# Altium footprint library pogo_pins.PcbLib: 5 footprints
Each footprint in its own frame and in the unit in brackets; x right, y up, seen from the top. Pads: shape width x height; smd on the part's side, far side on the other; paste and mask are expansions set on the pad; w line width, h text height; cw(c..) or ccw(c..) is an arc to the next point about the centre after c.
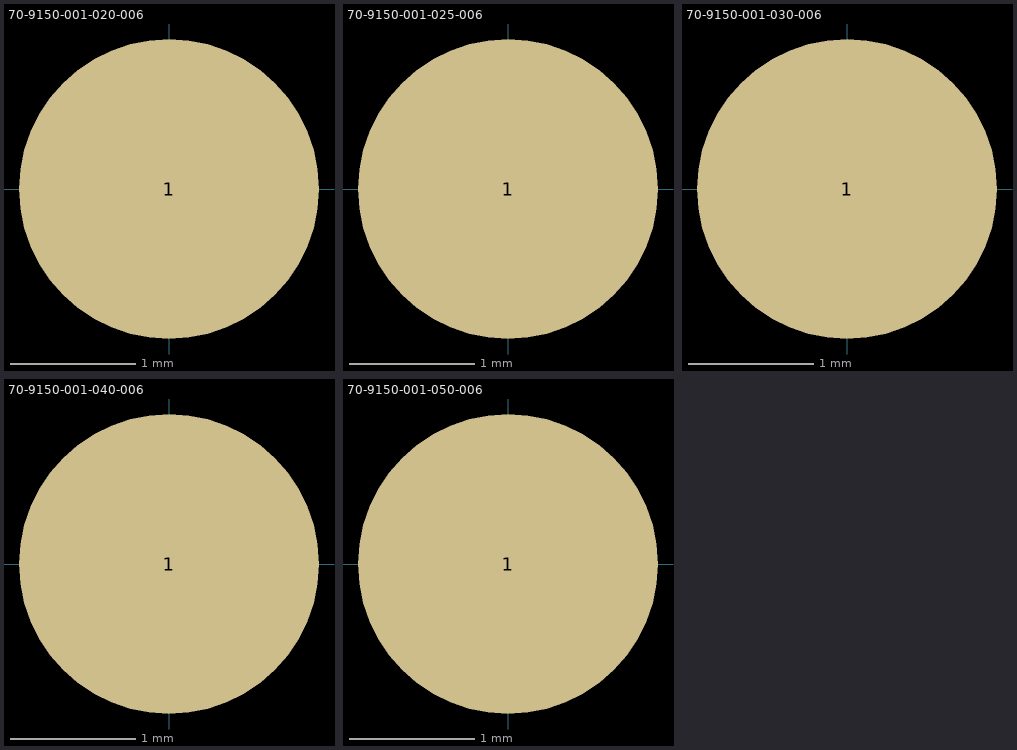
[diagram p0: the footprints below, top view; thin cyan lines are the x and y axes]

## 70-9150-001-020-006 [mm] "AVX Interconnect 1.9-2.3mm Pogo Pin"
pads (1):
  round 2.4 smd: 1(0,0)
3D body "AVX Interconnect-70-9150-001-020-006.STEP": height 2.57, standoff -0.03, extent -1,-1 1,1

## 70-9150-001-025-006 [mm] "AVX Interconnect 2.4-2.8mm Pogo Pin"
pads (1):
  round 2.4 smd: 1(0,0)
3D body "AVX Interconnect-70-9150-001-025-006.STEP": height 3.07, standoff -0.03, extent -1,-1 1,1

## 70-9150-001-030-006 [mm] "AVX Interconnect 2.9-3.4mm Pogo Pin"
pads (1):
  round 2.4 smd: 1(0,0)
3D body "AVX Interconnect-70-9150-001-030-006.STEP": height 3.77, standoff -0.03, extent -1,-1 1,1

## 70-9150-001-040-006 [mm] "AVX Interconnect 3.9-4.5mm Pogo Pin"
pads (1):
  round 2.4 smd: 1(0,0)
3D body "AVX Interconnect-70-9150-001-040-006.STEP": height 4.97, standoff -0.03, extent -1,-1 1,1

## 70-9150-001-050-006 [mm] "AVX Interconnect 4.9-5.5mm Pogo Pin"
pads (1):
  round 2.4 smd: 1(0,0)
3D body "AVX Interconnect-70-9150-001-050-006.STEP": height 5.97, standoff -0.03, extent -1,-1 1,1